# EAGLE library part IC_QFX16 (library dp_devices)
Universal Quad Flat Pack/Leadless 16 pins
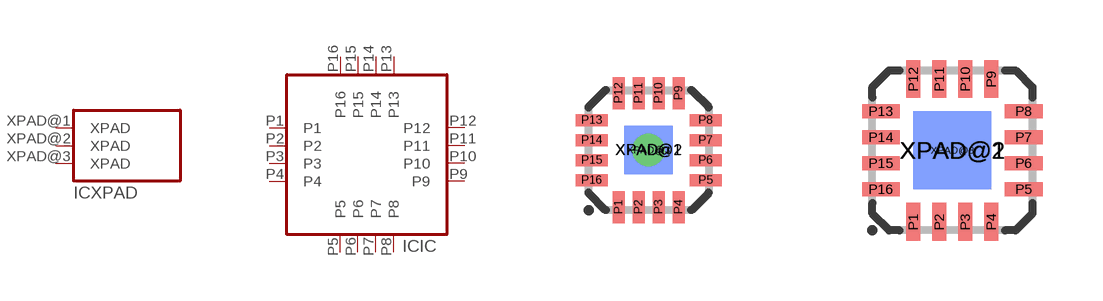
[diagram p137: symbol with the pads of QFN16_3X3; footprints QFN16_3X3, QFN16_4X4-2]

Designator prefix IC; gates IC=QFX-16 XPAD=QFX-XPAD-3

## IC_QFX16-QFN16_3X3  [QFN16_3X3]
P1  IC:P1  pas
P2  IC:P2  pas
P3  IC:P3  pas
P4  IC:P4  pas
P5  IC:P5  pas
P6  IC:P6  pas
P7  IC:P7  pas
P8  IC:P8  pas
P9  IC:P9  pas
P10  IC:P10  pas
P11  IC:P11  pas
P12  IC:P12  pas
P13  IC:P13  pas
P14  IC:P14  pas
P15  IC:P15  pas
P16  IC:P16  pas
XPAD@1  XPAD:XPAD  pas
XPAD@2  XPAD:XPAD  pas
XPAD@3  XPAD:XPAD  pas

## IC_QFX16-QFN16_4X4  [QFN16_4X4-2]
Pads as for QFN16_3X3

## Footprint QFN16_3X3 (pad centres in mm)
QFN 16 Body: 3 x 3 mm Pitch: 0.50 mm Based on: MAXIM's G1633-2 <http://pdfserv.maximintegrated.com/package_dwgs/21-0102.PDF>
smd 0.3 x 0.8: P1 -0.75,-1.425; P2 -0.25,-1.425; P3 0.25,-1.425; P4 0.75,-1.425; P9 0.75,1.425; P10 0.25,1.425; P11 -0.25,1.425; P12 -0.75,1.425
smd 0.8 x 0.3: P5 1.425,-0.75; P6 1.425,-0.25; P7 1.425,0.25; P8 1.425,0.75; P13 -1.425,0.75; P14 -1.425,0.25; P15 -1.425,-0.25; P16 -1.425,-0.75
smd 1.22 x 1.22: XPAD@1 0,0
smd 1.22 x 1.22 bottom: XPAD@2 0,0
drill 0.305 round: XPAD@3 0,0

## Footprint QFN16_4X4-2 (pad centres in mm)
QFN 16 Body: 4 x 4 mm Pitch: 0.65 mm Based on: MAXIM's G1644-1 <http://pdfserv.maximintegrated.com/package_dwgs/21-0106.PDF>
smd 0.35 x 0.95: P1 -0.975,-1.785; P2 -0.325,-1.785; P3 0.325,-1.785; P4 0.975,-1.785; P9 0.975,1.785; P10 0.325,1.785; P11 -0.325,1.785; P12 -0.975,1.785
smd 0.95 x 0.35: P5 1.785,-0.975; P6 1.785,-0.325; P7 1.785,0.325; P8 1.785,0.975; P13 -1.785,0.975; P14 -1.785,0.325; P15 -1.785,-0.325; P16 -1.785,-0.975
smd 1.95 x 1.95: XPAD@1 0,0
smd 1.95 x 1.95 bottom: XPAD@2 0,0
drill 0.305 round: XPAD@3 0,0